# EAGLE library part SSM2010 (library wheat)
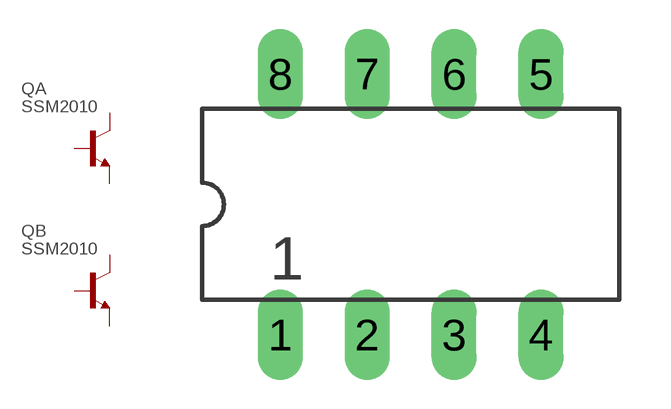
[diagram p87: symbol with the pads of DIP8; footprint DIP8]

Designator prefix Q; gates A=NPN1 B=NPN1

## SSM2010P  [DIP8]
1  A:C1  pas
2  A:B  pas
3  A:E  pas
6  B:E  pas
7  B:B  pas
8  B:C1  pas

## Footprint DIP8 (pad centres in mm)
DIP8 .300 centers
drill 0.813 long: 1 0,0; 2 2.54,0; 3 5.08,0; 4 7.62,0; 5 7.62,7.62; 6 5.08,7.62; 7 2.54,7.62; 8 0,7.62